# EAGLE library part SI5317D-C-GM (library Fugu_LSI)
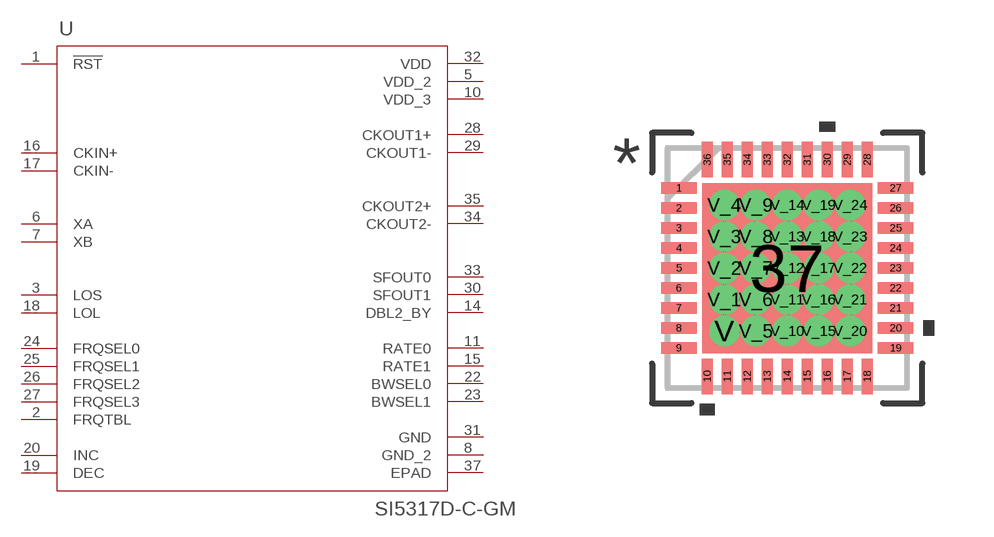
[diagram p35: symbol with the pads of QFN_36; footprint QFN_36]

Designator prefix U

## SI5317D-C-GM (MANUFACTURER_PART_NUMBER: SI5317DCGM; VENDOR: Silicon Labs)  [QFN_36]
1  !RST  in
2  FRQTBL  in
3  LOS  out
5  VDD_2  pwr
6  XA  in
7  XB  in
8  GND_2  pwr
10  VDD_3  pwr
11  RATE0  in
14  DBL2_BY  in
15  RATE1  in
16  CKIN+  in
17  CKIN-  in
18  LOL  out
19  DEC  in
20  INC  in
22  BWSEL0  in
23  BWSEL1  in
24  FRQSEL0  pas
25  FRQSEL1  pas
26  FRQSEL2  pas
27  FRQSEL3  pas
28  CKOUT1+  out
29  CKOUT1-  out
30  SFOUT1  in
31  GND  pwr
32  VDD  pwr
33  SFOUT0  in
34  CKOUT2-  out
35  CKOUT2+  out
37  EPAD  pas

## Footprint QFN_36 (pad centres in mm)
smd 0.89 x 0.28: 1 -2.71,2; 2 -2.71,1.5; 3 -2.71,1; 4 -2.71,0.5; 5 -2.71,0; 6 -2.71,-0.5; 7 -2.71,-1; 8 -2.71,-1.5; 9 -2.71,-2; 19 2.71,-2; 20 2.71,-1.5; 21 2.71,-1; 22 2.71,-0.5; 23 2.71,0; 24 2.71,0.5; 25 2.71,1; 26 2.71,1.5; 27 2.71,2
smd 0.28 x 0.89: 10 -2,-2.71; 11 -1.5,-2.71; 12 -1,-2.71; 13 -0.5,-2.71; 14 0,-2.71; 15 0.5,-2.71; 16 1,-2.71; 17 1.5,-2.71; 18 2,-2.71; 28 2,2.71; 29 1.5,2.71; 30 1,2.71; 31 0.5,2.71; 32 0,2.71; 33 -0.5,2.71; 34 -1,2.71; 35 -1.5,2.71; 36 -2,2.71
smd 4.25 x 4.25: 37 0,0
drill 0.254 pad 0.508: V -1.575,-1.575; V_1 -1.575,-0.787; V_2 -1.575,0; V_3 -1.575,0.787; V_4 -1.575,1.575; V_5 -0.787,-1.575; V_6 -0.787,-0.787; V_7 -0.787,0; V_8 -0.787,0.787; V_9 -0.787,1.575; V_10 0,-1.575; V_11 0,-0.787; V_12 0,0; V_13 0,0.787; V_14 0,1.575; V_15 0.787,-1.575; V_16 0.787,-0.787; V_17 0.787,0; V_18 0.787,0.787; V_19 0.787,1.575; V_20 1.575,-1.575; V_21 1.575,-0.787; V_22 1.575,0; V_23 1.575,0.787; V_24 1.575,1.575